# Altium integrated library Xilinx Virtex-E FPGA.IntLib: 600 symbols (part 2 of 4)
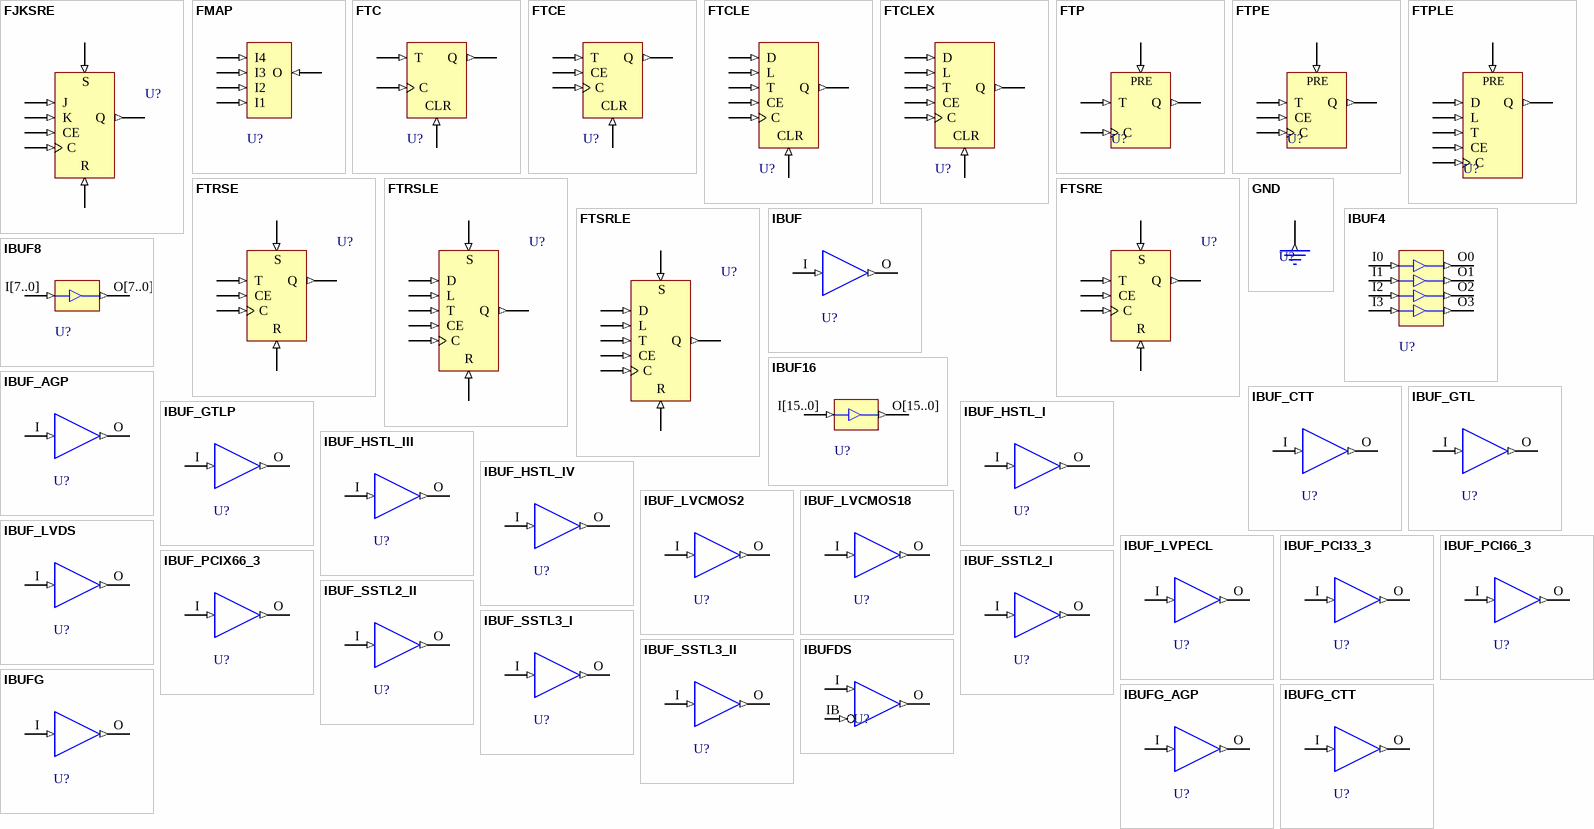
[diagram p16: symbols FJKSRE to IBUFG_CTT]

## IBUF_GTL
designator U?
Single Input Buffer using the GTL standard; FPGAVendor: Xilinx; Published: 15-Sep-2003; Publisher: Altium Limited; HelpURL: http://toolbox.xilinx.com/docsan/xilinx7/books/docs/lib/lib.pdf
pins: I (in), O (out)

## IBUF_GTLP
designator U?
Dedicated Input Buffer using the GTL Plus standard; FPGAVendor: Xilinx; Published: 15-Sep-2003; Publisher: Altium Limited; HelpURL: http://toolbox.xilinx.com/docsan/xilinx7/books/docs/lib/lib.pdf
pins: I (in), O (out)

## IBUF_HSTL_I
designator U?
Single Input Buffer using the HSTL_I standard; FPGAVendor: Xilinx; Published: 15-Sep-2003; Publisher: Altium Limited; HelpURL: http://toolbox.xilinx.com/docsan/xilinx7/books/docs/lib/lib.pdf
pins: I (in), O (out)

## IBUF_HSTL_III
designator U?
Single Input Buffer using the HSTL_III standard; FPGAVendor: Xilinx; Published: 15-Sep-2003; Publisher: Altium Limited; HelpURL: http://toolbox.xilinx.com/docsan/xilinx7/books/docs/lib/lib.pdf
pins: I (in), O (out)

## IBUF_HSTL_IV
designator U?
Single Input Buffer using the HSTL_IV standard; FPGAVendor: Xilinx; Published: 15-Sep-2003; Publisher: Altium Limited; HelpURL: http://toolbox.xilinx.com/docsan/xilinx7/books/docs/lib/lib.pdf
pins: I (in), O (out)

## IBUF_LVCMOS2
designator U?
Single Input Buffer using the LVCMOS2 standard; FPGAVendor: Xilinx; Note: Not supported for Virtex; Published: 15-Sep-2003; Publisher: Altium Limited; HelpURL: http://toolbox.xilinx.com/docsan/xilinx7/books/docs/lib/lib.pdf
pins: I (in), O (out)

## IBUF_LVCMOS18
designator U?
Single Input Buffer using the LVCMOS18 standard; FPGAVendor: Xilinx; Note: Not supported for Virtex; Published: 15-Sep-2003; Publisher: Altium Limited; HelpURL: http://toolbox.xilinx.com/docsan/xilinx7/books/docs/lib/lib.pdf
pins: I (in), O (out)

## IBUF_LVDS
designator U?
Single Input Buffer using the LVDS standard; FPGAVendor: Xilinx; Note: Not supported for Virtex; Published: 15-Sep-2003; Publisher: Altium Limited; HelpURL: http://toolbox.xilinx.com/docsan/xilinx7/books/docs/lib/lib.pdf
pins: I (in), O (out)

## IBUF_LVPECL
designator U?
Single Input Buffer using the LVPECL standard; FPGAVendor: Xilinx; Note: Not supported for Virtex; Published: 15-Sep-2003; Publisher: Altium Limited; HelpURL: http://toolbox.xilinx.com/docsan/xilinx7/books/docs/lib/lib.pdf
pins: I (in), O (out)

## IBUF_PCI33_3
designator U?
Single Input Buffer using the PCI33_3 standard; FPGAVendor: Xilinx; Published: 15-Sep-2003; Publisher: Altium Limited; HelpURL: http://toolbox.xilinx.com/docsan/xilinx7/books/docs/lib/lib.pdf
pins: I (in), O (out)

## IBUF_PCI66_3
designator U?
Single Input Buffer using the PCI66_3 standard; FPGAVendor: Xilinx; Published: 15-Sep-2003; Publisher: Altium Limited; HelpURL: http://toolbox.xilinx.com/docsan/xilinx7/books/docs/lib/lib.pdf
pins: I (in), O (out)

## IBUF_PCIX66_3
designator U?
Single Input Buffer using the PCIX66_3 standard; FPGAVendor: Xilinx; Published: 15-Sep-2003; Publisher: Altium Limited; HelpURL: http://toolbox.xilinx.com/docsan/xilinx7/books/docs/lib/lib.pdf
pins: I (in), O (out)

## IBUF_SSTL2_I
designator U?
Single Input Buffer using the SSTL2_I standard; FPGAVendor: Xilinx; Published: 15-Sep-2003; Publisher: Altium Limited; HelpURL: http://toolbox.xilinx.com/docsan/xilinx7/books/docs/lib/lib.pdf
pins: I (in), O (out)

## IBUF_SSTL2_II
designator U?
Single Input Buffer using the SSTL2_II standard; FPGAVendor: Xilinx; Published: 15-Sep-2003; Publisher: Altium Limited; HelpURL: http://toolbox.xilinx.com/docsan/xilinx7/books/docs/lib/lib.pdf
pins: I (in), O (out)

## IBUF_SSTL3_I
designator U?
Single Input Buffer using the SSTL3_I standard; FPGAVendor: Xilinx; Published: 15-Sep-2003; Publisher: Altium Limited; HelpURL: http://toolbox.xilinx.com/docsan/xilinx7/books/docs/lib/lib.pdf
pins: I (in), O (out)

## IBUF_SSTL3_II
designator U?
Single Input Buffer using the SSTL3_II standard; FPGAVendor: Xilinx; Published: 15-Sep-2003; Publisher: Altium Limited; HelpURL: http://toolbox.xilinx.com/docsan/xilinx7/books/docs/lib/lib.pdf
pins: I (in), O (out)

## IBUFDS
designator U?
Differential Signaling Input Buffer with Selectable I/O Interface; FPGAVendor: Xilinx; Published: 15-Sep-2003; Publisher: Altium Limited; HelpURL: http://toolbox.xilinx.com/docsan/xilinx7/books/docs/lib/lib.pdf
pins: I (in), IB (in), O (out)

## IBUFG
designator U?
Dedicated Input Buffer using the LVTTL standard; FPGAVendor: Xilinx; Published: 15-Sep-2003; Publisher: Altium Limited; HelpURL: http://toolbox.xilinx.com/docsan/xilinx7/books/docs/lib/lib.pdf
pins: I (in), O (out)

## IBUFG_AGP
designator U?
Dedicated Input Buffer using the AGP standard; FPGAVendor: Xilinx; Published: 15-Sep-2003; Publisher: Altium Limited; HelpURL: http://toolbox.xilinx.com/docsan/xilinx7/books/docs/lib/lib.pdf
pins: I (in), O (out)

## IBUFG_CTT
designator U?
Dedicated Input Buffer using the CTT standard; FPGAVendor: Xilinx; Published: 15-Sep-2003; Publisher: Altium Limited; HelpURL: http://toolbox.xilinx.com/docsan/xilinx7/books/docs/lib/lib.pdf
pins: I (in), O (out)

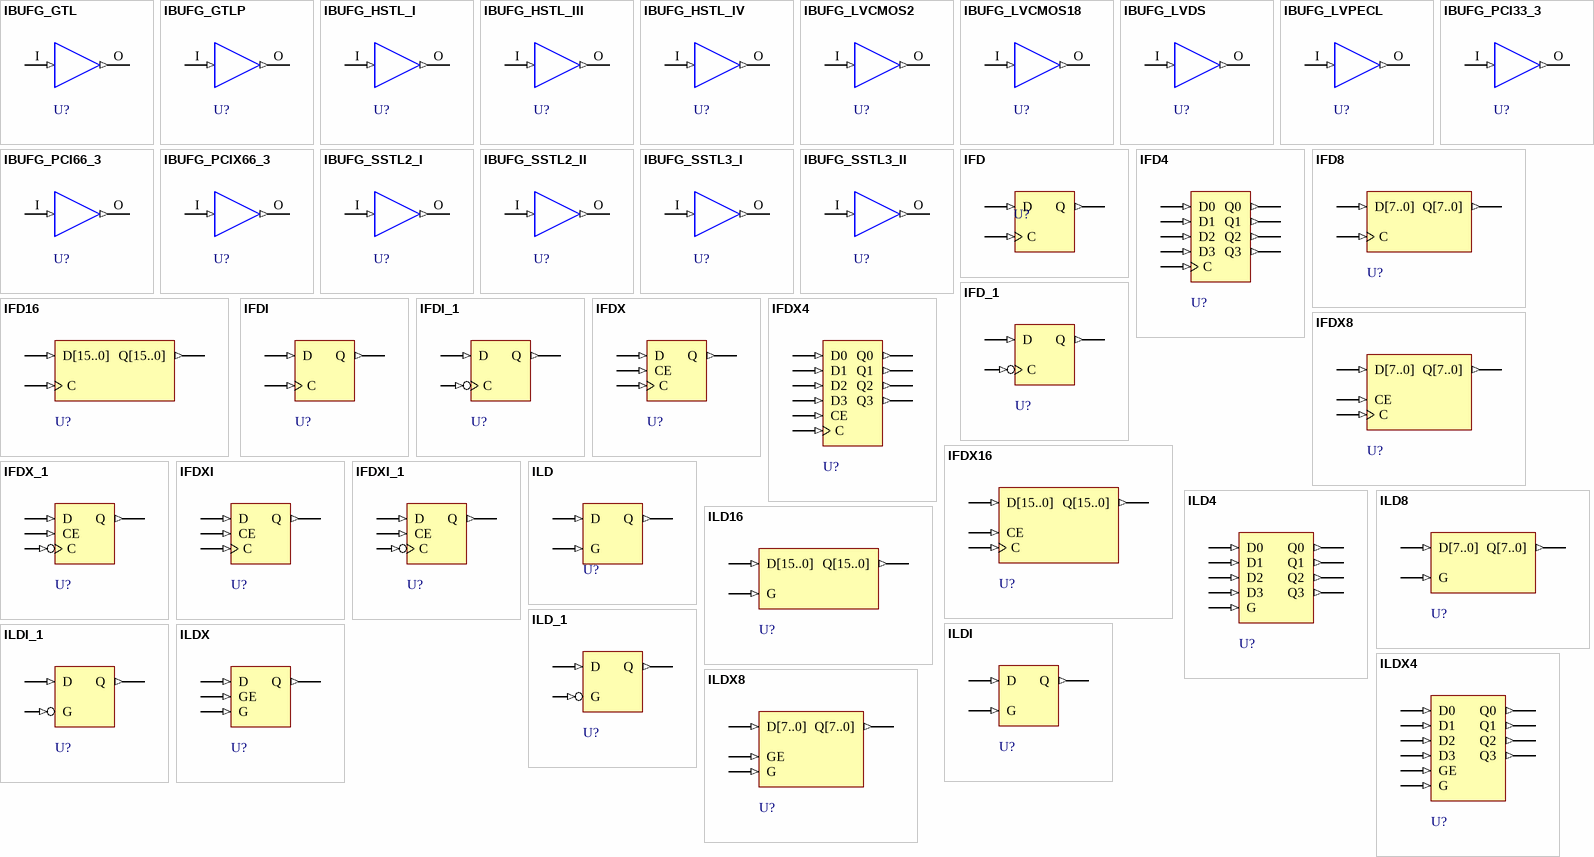
[diagram p5: symbols IBUFG_GTL to ILDX8]

## IBUFG_GTL
designator U?
Dedicated Input Buffer using the GTL standard; FPGAVendor: Xilinx; Published: 15-Sep-2003; Publisher: Altium Limited; HelpURL: http://toolbox.xilinx.com/docsan/xilinx7/books/docs/lib/lib.pdf
pins: I (in), O (out)

## IBUFG_GTLP
designator U?
Dedicated Input Buffer using the GTL Plus standard; FPGAVendor: Xilinx; Published: 15-Sep-2003; Publisher: Altium Limited; HelpURL: http://toolbox.xilinx.com/docsan/xilinx7/books/docs/lib/lib.pdf
pins: I (in), O (out)

## IBUFG_HSTL_I
designator U?
Dedicated Input Buffer using the HSTL_I standard; FPGAVendor: Xilinx; Published: 15-Sep-2003; Publisher: Altium Limited; HelpURL: http://toolbox.xilinx.com/docsan/xilinx7/books/docs/lib/lib.pdf
pins: I (in), O (out)

## IBUFG_HSTL_III
designator U?
Dedicated Input Buffer using the HSTL_III standard; FPGAVendor: Xilinx; Published: 15-Sep-2003; Publisher: Altium Limited; HelpURL: http://toolbox.xilinx.com/docsan/xilinx7/books/docs/lib/lib.pdf
pins: I (in), O (out)

## IBUFG_HSTL_IV
designator U?
Dedicated Input Buffer using the HSTL_IV standard; FPGAVendor: Xilinx; Published: 15-Sep-2003; Publisher: Altium Limited; HelpURL: http://toolbox.xilinx.com/docsan/xilinx7/books/docs/lib/lib.pdf
pins: I (in), O (out)

## IBUFG_LVCMOS2
designator U?
Dedicated Input Buffer using the LVCMOS2 standard; FPGAVendor: Xilinx; Note: Not supported for Virtex; Published: 15-Sep-2003; Publisher: Altium Limited; HelpURL: http://toolbox.xilinx.com/docsan/xilinx7/books/docs/lib/lib.pdf
pins: I (in), O (out)

## IBUFG_LVCMOS18
designator U?
Dedicated Input Buffer using the LVCMOS18 standard; FPGAVendor: Xilinx; Note: Not supported for Virtex; Published: 15-Sep-2003; Publisher: Altium Limited; HelpURL: http://toolbox.xilinx.com/docsan/xilinx7/books/docs/lib/lib.pdf
pins: I (in), O (out)

## IBUFG_LVDS
designator U?
Dedicated Input Buffer using the LVDS standard; FPGAVendor: Xilinx; Note: Not supported for Virtex; Published: 15-Sep-2003; Publisher: Altium Limited; HelpURL: http://toolbox.xilinx.com/docsan/xilinx7/books/docs/lib/lib.pdf
pins: I (in), O (out)

## IBUFG_LVPECL
designator U?
Dedicated Input Buffer using the LVPECL standard; FPGAVendor: Xilinx; Note: Not supported for Virtex; Published: 15-Sep-2003; Publisher: Altium Limited; HelpURL: http://toolbox.xilinx.com/docsan/xilinx7/books/docs/lib/lib.pdf
pins: I (in), O (out)

## IBUFG_PCI33_3
designator U?
Dedicated Input Buffer using the PCI33_3 standard; FPGAVendor: Xilinx; Published: 15-Sep-2003; Publisher: Altium Limited; HelpURL: http://toolbox.xilinx.com/docsan/xilinx7/books/docs/lib/lib.pdf
pins: I (in), O (out)

## IBUFG_PCI66_3
designator U?
Dedicated Input Buffer using the PCI66_3 standard; FPGAVendor: Xilinx; Published: 15-Sep-2003; Publisher: Altium Limited; HelpURL: http://toolbox.xilinx.com/docsan/xilinx7/books/docs/lib/lib.pdf
pins: I (in), O (out)

## IBUFG_PCIX66_3
designator U?
Dedicated Input Buffer using the PCIX66_3 standard; FPGAVendor: Xilinx; Published: 15-Sep-2003; Publisher: Altium Limited; HelpURL: http://toolbox.xilinx.com/docsan/xilinx7/books/docs/lib/lib.pdf
pins: I (in), O (out)

## IBUFG_SSTL2_I
designator U?
Dedicated Input Buffer using the SSTL2_I standard; FPGAVendor: Xilinx; Published: 15-Sep-2003; Publisher: Altium Limited; HelpURL: http://toolbox.xilinx.com/docsan/xilinx7/books/docs/lib/lib.pdf
pins: I (in), O (out)

## IBUFG_SSTL2_II
designator U?
Dedicated Input Buffer using the SSTL2_II standard; FPGAVendor: Xilinx; Published: 15-Sep-2003; Publisher: Altium Limited; HelpURL: http://toolbox.xilinx.com/docsan/xilinx7/books/docs/lib/lib.pdf
pins: I (in), O (out)

## IBUFG_SSTL3_I
designator U?
Dedicated Input Buffer using the SSTL3_I standard; FPGAVendor: Xilinx; Published: 15-Sep-2003; Publisher: Altium Limited; HelpURL: http://toolbox.xilinx.com/docsan/xilinx7/books/docs/lib/lib.pdf
pins: I (in), O (out)

## IBUFG_SSTL3_II
designator U?
Dedicated Input Buffer using the SSTL3_II standard; FPGAVendor: Xilinx; Published: 15-Sep-2003; Publisher: Altium Limited; HelpURL: http://toolbox.xilinx.com/docsan/xilinx7/books/docs/lib/lib.pdf
pins: I (in), O (out)

## IFD
designator U?
Single-Input D Flip-Flop; FPGAVendor: Xilinx; Published: 15-Sep-2003; Publisher: Altium Limited; HelpURL: http://toolbox.xilinx.com/docsan/xilinx7/books/docs/lib/lib.pdf
pins: C (in), D (in), Q (out)

## IFD4
designator U?
Multiple-Input D Flip-Flop; FPGAVendor: Xilinx; Published: 15-Sep-2003; Publisher: Altium Limited; HelpURL: http://toolbox.xilinx.com/docsan/xilinx7/books/docs/lib/lib.pdf
pins: C (in), D0 (in), D1 (in), D2 (in), D3 (in), Q0 (out), Q1 (out), Q2 (out), Q3 (out)

## IFD8
designator U?
Multiple-Input D Flip-Flop; FPGAVendor: Xilinx; Published: 15-Sep-2003; Publisher: Altium Limited; HelpURL: http://toolbox.xilinx.com/docsan/xilinx7/books/docs/lib/lib.pdf
pins: C (in), D[7..0] (in), Q[7..0] (out)

## IFD16
designator U?
Multiple-Input D Flip-Flop; FPGAVendor: Xilinx; Published: 15-Sep-2003; Publisher: Altium Limited; HelpURL: http://toolbox.xilinx.com/docsan/xilinx7/books/docs/lib/lib.pdf
pins: C (in), D[15..0] (in), Q[15..0] (out)

## IFD_1
designator U?
Input D Flip-Flop with Inverted Clock; FPGAVendor: Xilinx; Published: 15-Sep-2003; Publisher: Altium Limited; HelpURL: http://toolbox.xilinx.com/docsan/xilinx7/books/docs/lib/lib.pdf
pins: C (in), D (in), Q (out)

## IFDI
designator U?
Input D Flip-Flop (Asynchronous Preset); FPGAVendor: Xilinx; Published: 15-Sep-2003; Publisher: Altium Limited; HelpURL: http://toolbox.xilinx.com/docsan/xilinx7/books/docs/lib/lib.pdf
pins: C (in), D (in), Q (out)

## IFDI_1
designator U?
Input D Flip-Flop with Inverted Clock (Asynchronous Preset); FPGAVendor: Xilinx; Published: 15-Sep-2003; Publisher: Altium Limited; HelpURL: http://toolbox.xilinx.com/docsan/xilinx7/books/docs/lib/lib.pdf
pins: C (in), D (in), Q (out)

## IFDX
designator U?
Single-Input D Flip-Flop with Clock Enable; FPGAVendor: Xilinx; Published: 15-Sep-2003; Publisher: Altium Limited; HelpURL: http://toolbox.xilinx.com/docsan/xilinx7/books/docs/lib/lib.pdf
pins: C (in), CE (in), D (in), Q (out)

## IFDX4
designator U?
Multiple-Input D Flip-Flop with Clock Enable; FPGAVendor: Xilinx; Published: 15-Sep-2003; Publisher: Altium Limited; HelpURL: http://toolbox.xilinx.com/docsan/xilinx7/books/docs/lib/lib.pdf
pins: C (in), CE (in), D0 (in), D1 (in), D2 (in), D3 (in), Q0 (out), Q1 (out), Q2 (out), Q3 (out)

## IFDX8
designator U?
Multiple-Input D Flip-Flop with Clock Enable; FPGAVendor: Xilinx; Published: 15-Sep-2003; Publisher: Altium Limited; HelpURL: http://toolbox.xilinx.com/docsan/xilinx7/books/docs/lib/lib.pdf
pins: C (in), CE (in), D[7..0] (in), Q[7..0] (out)

## IFDX16
designator U?
Multiple-Input D Flip-Flop with Clock Enable; FPGAVendor: Xilinx; Published: 15-Sep-2003; Publisher: Altium Limited; HelpURL: http://toolbox.xilinx.com/docsan/xilinx7/books/docs/lib/lib.pdf
pins: C (in), CE (in), D[15..0] (in), Q[15..0] (out)

## IFDX_1
designator U?
Input D Flip-Flop with Inverted Clock and Clock Enable; FPGAVendor: Xilinx; Published: 15-Sep-2003; Publisher: Altium Limited; HelpURL: http://toolbox.xilinx.com/docsan/xilinx7/books/docs/lib/lib.pdf
pins: C (in), CE (in), D (in), Q (out)

## IFDXI
designator U?
Input D Flip-Flop with Clock Enable (Asynchronous Preset); FPGAVendor: Xilinx; Published: 15-Sep-2003; Publisher: Altium Limited; HelpURL: http://toolbox.xilinx.com/docsan/xilinx7/books/docs/lib/lib.pdf
pins: C (in), CE (in), D (in), Q (out)

## IFDXI_1
designator U?
Input D Flip-Flop with Inverted Clock and Clock Enable (Asynchronous Preset); FPGAVendor: Xilinx; Published: 15-Sep-2003; Publisher: Altium Limited; HelpURL: http://toolbox.xilinx.com/docsan/xilinx7/books/docs/lib/lib.pdf
pins: C (in), CE (in), D (in), Q (out)

## ILD
designator U?
Transparent Input Data Latch; FPGAVendor: Xilinx; Published: 15-Sep-2003; Publisher: Altium Limited; HelpURL: http://toolbox.xilinx.com/docsan/xilinx7/books/docs/lib/lib.pdf
pins: D (in), G (in), Q (out)

## ILD4
designator U?
Transparent Input Data Latch; FPGAVendor: Xilinx; Published: 15-Sep-2003; Publisher: Altium Limited; HelpURL: http://toolbox.xilinx.com/docsan/xilinx7/books/docs/lib/lib.pdf
pins: D0 (in), D1 (in), D2 (in), D3 (in), G (in), Q0 (out), Q1 (out), Q2 (out), Q3 (out)

## ILD8
designator U?
Transparent Input Data Latch; FPGAVendor: Xilinx; Published: 15-Sep-2003; Publisher: Altium Limited; HelpURL: http://toolbox.xilinx.com/docsan/xilinx7/books/docs/lib/lib.pdf
pins: D[7..0] (in), G (in), Q[7..0] (out)

## ILD16
designator U?
Transparent Input Data Latch; FPGAVendor: Xilinx; Published: 15-Sep-2003; Publisher: Altium Limited; HelpURL: http://toolbox.xilinx.com/docsan/xilinx7/books/docs/lib/lib.pdf
pins: D[15..0] (in), G (in), Q[15..0] (out)

## ILD_1
designator U?
Transparent Input Data Latch with Inverted Gate; FPGAVendor: Xilinx; Published: 15-Sep-2003; Publisher: Altium Limited; HelpURL: http://toolbox.xilinx.com/docsan/xilinx7/books/docs/lib/lib.pdf
pins: D (in), G (in), Q (out)

## ILDI
designator U?
Transparent Input Data Latch (Asynchronous Preset); FPGAVendor: Xilinx; Published: 15-Sep-2003; Publisher: Altium Limited; HelpURL: http://toolbox.xilinx.com/docsan/xilinx7/books/docs/lib/lib.pdf
pins: D (in), G (in), Q (out)

## ILDI_1
designator U?
Transparent Input Data Latch with Inverted Gate (Asynchronous Preset); FPGAVendor: Xilinx; Published: 15-Sep-2003; Publisher: Altium Limited; HelpURL: http://toolbox.xilinx.com/docsan/xilinx7/books/docs/lib/lib.pdf
pins: D (in), G (in), Q (out)

## ILDX
designator U?
Transparent Input Data Latch; FPGAVendor: Xilinx; Published: 15-Sep-2003; Publisher: Altium Limited; HelpURL: http://toolbox.xilinx.com/docsan/xilinx7/books/docs/lib/lib.pdf
pins: D (in), G (in), GE (in), Q (out)

## ILDX4
designator U?
Transparent Input Data Latch; FPGAVendor: Xilinx; Published: 15-Sep-2003; Publisher: Altium Limited; HelpURL: http://toolbox.xilinx.com/docsan/xilinx7/books/docs/lib/lib.pdf
pins: D0 (in), D1 (in), D2 (in), D3 (in), G (in), GE (in), Q0 (out), Q1 (out), Q2 (out), Q3 (out)

## ILDX8
designator U?
Transparent Input Data Latch; FPGAVendor: Xilinx; Published: 15-Sep-2003; Publisher: Altium Limited; HelpURL: http://toolbox.xilinx.com/docsan/xilinx7/books/docs/lib/lib.pdf
pins: D[7..0] (in), G (in), GE (in), Q[7..0] (out)

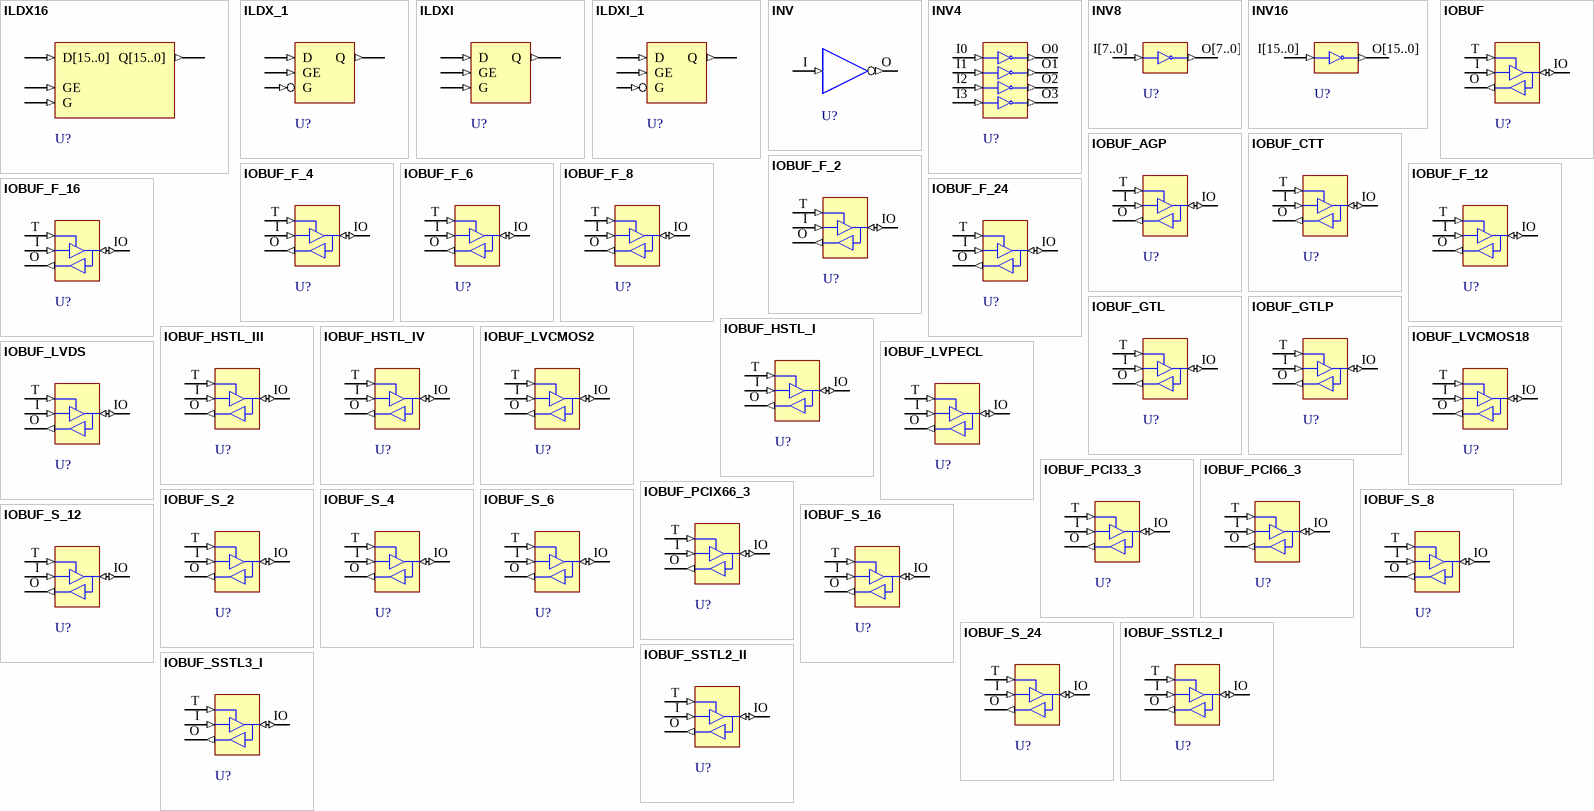
[diagram p6: symbols ILDX16 to IOBUF_SSTL3_I]

## ILDX16
designator U?
Transparent Input Data Latch; FPGAVendor: Xilinx; Published: 15-Sep-2003; Publisher: Altium Limited; HelpURL: http://toolbox.xilinx.com/docsan/xilinx7/books/docs/lib/lib.pdf
pins: D[15..0] (in), G (in), GE (in), Q[15..0] (out)

## ILDX_1
designator U?
Transparent Input Data Latch with Inverted Gate; FPGAVendor: Xilinx; Published: 15-Sep-2003; Publisher: Altium Limited; HelpURL: http://toolbox.xilinx.com/docsan/xilinx7/books/docs/lib/lib.pdf
pins: D (in), G (in), GE (in), Q (out)

## ILDXI
designator U?
Transparent Input Data Latch (Asynchronous Preset); FPGAVendor: Xilinx; Published: 15-Sep-2003; Publisher: Altium Limited; HelpURL: http://toolbox.xilinx.com/docsan/xilinx7/books/docs/lib/lib.pdf
pins: D (in), G (in), GE (in), Q (out)

## ILDXI_1
designator U?
Transparent Input Data Latch with Inverted Gate (Asynchronous Preset); FPGAVendor: Xilinx; Published: 15-Sep-2003; Publisher: Altium Limited; HelpURL: http://toolbox.xilinx.com/docsan/xilinx7/books/docs/lib/lib.pdf
pins: D (in), G (in), GE (in), Q (out)

## INV
designator U?
Inverter; FPGAVendor: Xilinx; Published: 15-Sep-2003; Publisher: Altium Limited; HelpURL: http://toolbox.xilinx.com/docsan/xilinx7/books/docs/lib/lib.pdf
pins: I (in), O (out)

## INV4
designator U?
4 x Inverters; FPGAVendor: Xilinx; Published: 15-Sep-2003; Publisher: Altium Limited; HelpURL: http://toolbox.xilinx.com/docsan/xilinx7/books/docs/lib/lib.pdf
pins: I0 (in), I1 (in), I2 (in), I3 (in), O0 (out), O1 (out), O2 (out), O3 (out)

## INV8
designator U?
8 x Inverters; FPGAVendor: Xilinx; Published: 15-Sep-2003; Publisher: Altium Limited; HelpURL: http://toolbox.xilinx.com/docsan/xilinx7/books/docs/lib/lib.pdf
pins: I[7..0] (in), O[7..0] (out)

## INV16
designator U?
16 x Inverters; FPGAVendor: Xilinx; Published: 15-Sep-2003; Publisher: Altium Limited; HelpURL: http://toolbox.xilinx.com/docsan/xilinx7/books/docs/lib/lib.pdf
pins: I[15..0] (in), O[15..0] (out)

## IOBUF
designator U?
Bi-Directional Buffer using the LVTTL standard; FPGAVendor: Xilinx; Published: 15-Sep-2003; Publisher: Altium Limited; HelpURL: http://toolbox.xilinx.com/docsan/xilinx7/books/docs/lib/lib.pdf
pins: I (in), IO (io), O (out), T (in)

## IOBUF_AGP
designator U?
Bi-Directional Buffer using the AGP standard; FPGAVendor: Xilinx; Published: 15-Sep-2003; Publisher: Altium Limited; HelpURL: http://toolbox.xilinx.com/docsan/xilinx7/books/docs/lib/lib.pdf
pins: I (in), IO (io), O (out), T (in)

## IOBUF_CTT
designator U?
Bi-Directional Buffer using the CTT standard; FPGAVendor: Xilinx; Published: 15-Sep-2003; Publisher: Altium Limited; HelpURL: http://toolbox.xilinx.com/docsan/xilinx7/books/docs/lib/lib.pdf
pins: I (in), IO (io), O (out), T (in)

## IOBUF_F_2
designator U?
Bi-Directional Buffer using the LVTTL standard; FPGAVendor: Xilinx; Published: 15-Sep-2003; Publisher: Altium Limited; HelpURL: http://toolbox.xilinx.com/docsan/xilinx7/books/docs/lib/lib.pdf
pins: I (in), IO (io), O (out), T (in)

## IOBUF_F_4
designator U?
Bi-Directional Buffer using the LVTTL standard; FPGAVendor: Xilinx; Published: 15-Sep-2003; Publisher: Altium Limited; HelpURL: http://toolbox.xilinx.com/docsan/xilinx7/books/docs/lib/lib.pdf
pins: I (in), IO (io), O (out), T (in)

## IOBUF_F_6
designator U?
Bi-Directional Buffer using the LVTTL standard; FPGAVendor: Xilinx; Published: 15-Sep-2003; Publisher: Altium Limited; HelpURL: http://toolbox.xilinx.com/docsan/xilinx7/books/docs/lib/lib.pdf
pins: I (in), IO (io), O (out), T (in)

## IOBUF_F_8
designator U?
Bi-Directional Buffer using the LVTTL standard; FPGAVendor: Xilinx; Published: 15-Sep-2003; Publisher: Altium Limited; HelpURL: http://toolbox.xilinx.com/docsan/xilinx7/books/docs/lib/lib.pdf
pins: I (in), IO (io), O (out), T (in)

## IOBUF_F_12
designator U?
Bi-Directional Buffer using the LVTTL standard; FPGAVendor: Xilinx; Published: 15-Sep-2003; Publisher: Altium Limited; HelpURL: http://toolbox.xilinx.com/docsan/xilinx7/books/docs/lib/lib.pdf
pins: I (in), IO (io), O (out), T (in)

## IOBUF_F_16
designator U?
Bi-Directional Buffer using the LVTTL standard; FPGAVendor: Xilinx; Published: 15-Sep-2003; Publisher: Altium Limited; HelpURL: http://toolbox.xilinx.com/docsan/xilinx7/books/docs/lib/lib.pdf
pins: I (in), IO (io), O (out), T (in)

## IOBUF_F_24
designator U?
Bi-Directional Buffer using the LVTTL standard; FPGAVendor: Xilinx; Published: 15-Sep-2003; Publisher: Altium Limited; HelpURL: http://toolbox.xilinx.com/docsan/xilinx7/books/docs/lib/lib.pdf
pins: I (in), IO (io), O (out), T (in)

## IOBUF_GTL
designator U?
Bi-Directional Buffer using the GTL standard; FPGAVendor: Xilinx; Published: 15-Sep-2003; Publisher: Altium Limited; HelpURL: http://toolbox.xilinx.com/docsan/xilinx7/books/docs/lib/lib.pdf
pins: I (in), IO (io), O (out), T (in)

## IOBUF_GTLP
designator U?
Bi-Directional Buffer using the GTL Plus standard; FPGAVendor: Xilinx; Published: 15-Sep-2003; Publisher: Altium Limited; HelpURL: http://toolbox.xilinx.com/docsan/xilinx7/books/docs/lib/lib.pdf
pins: I (in), IO (io), O (out), T (in)

## IOBUF_HSTL_I
designator U?
Bi-Directional Buffer using the HSTL_I standard; FPGAVendor: Xilinx; Published: 15-Sep-2003; Publisher: Altium Limited; HelpURL: http://toolbox.xilinx.com/docsan/xilinx7/books/docs/lib/lib.pdf
pins: I (in), IO (io), O (out), T (in)

## IOBUF_HSTL_III
designator U?
Bi-Directional Buffer using the HSTL_III standard; FPGAVendor: Xilinx; Published: 15-Sep-2003; Publisher: Altium Limited; HelpURL: http://toolbox.xilinx.com/docsan/xilinx7/books/docs/lib/lib.pdf
pins: I (in), IO (io), O (out), T (in)

## IOBUF_HSTL_IV
designator U?
Bi-Directional Buffer using the HSTL_IV standard; FPGAVendor: Xilinx; Published: 15-Sep-2003; Publisher: Altium Limited; HelpURL: http://toolbox.xilinx.com/docsan/xilinx7/books/docs/lib/lib.pdf
pins: I (in), IO (io), O (out), T (in)

## IOBUF_LVCMOS2
designator U?
Bi-Directional Buffer using the LVCMOS2 standard; FPGAVendor: Xilinx; Note: Not supported for Virtex; Published: 15-Sep-2003; Publisher: Altium Limited; HelpURL: http://toolbox.xilinx.com/docsan/xilinx7/books/docs/lib/lib.pdf
pins: I (in), IO (io), O (out), T (in)

## IOBUF_LVCMOS18
designator U?
Bi-Directional Buffer using the LVCMOS18 standard; FPGAVendor: Xilinx; Note: Not supported for Virtex; Published: 15-Sep-2003; Publisher: Altium Limited; HelpURL: http://toolbox.xilinx.com/docsan/xilinx7/books/docs/lib/lib.pdf
pins: I (in), IO (io), O (out), T (in)

## IOBUF_LVDS
designator U?
Bi-Directional Buffer using the LVDS standard; FPGAVendor: Xilinx; Note: Not supported for Virtex; Published: 15-Sep-2003; Publisher: Altium Limited; HelpURL: http://toolbox.xilinx.com/docsan/xilinx7/books/docs/lib/lib.pdf
pins: I (in), IO (io), O (out), T (in)

## IOBUF_LVPECL
designator U?
Bi-Directional Buffer using the LVPECL standard; FPGAVendor: Xilinx; Note: Not supported for Virtex; Published: 15-Sep-2003; Publisher: Altium Limited; HelpURL: http://toolbox.xilinx.com/docsan/xilinx7/books/docs/lib/lib.pdf
pins: I (in), IO (io), O (out), T (in)

## IOBUF_PCI33_3
designator U?
Bi-Directional Buffer using the PCI33_3 standard; FPGAVendor: Xilinx; Published: 15-Sep-2003; Publisher: Altium Limited; HelpURL: http://toolbox.xilinx.com/docsan/xilinx7/books/docs/lib/lib.pdf
pins: I (in), IO (io), O (out), T (in)

## IOBUF_PCI66_3
designator U?
Bi-Directional Buffer using the PCI66_3 standard; FPGAVendor: Xilinx; Published: 15-Sep-2003; Publisher: Altium Limited; HelpURL: http://toolbox.xilinx.com/docsan/xilinx7/books/docs/lib/lib.pdf
pins: I (in), IO (io), O (out), T (in)

## IOBUF_PCIX66_3
designator U?
Bi-Directional Buffer using the PCIX66_3 standard; FPGAVendor: Xilinx; Published: 15-Sep-2003; Publisher: Altium Limited; HelpURL: http://toolbox.xilinx.com/docsan/xilinx7/books/docs/lib/lib.pdf
pins: I (in), IO (io), O (out), T (in)

## IOBUF_S_2
designator U?
Bi-Directional Buffer using the LVTTL standard; FPGAVendor: Xilinx; Published: 15-Sep-2003; Publisher: Altium Limited; HelpURL: http://toolbox.xilinx.com/docsan/xilinx7/books/docs/lib/lib.pdf
pins: I (in), IO (io), O (out), T (in)

## IOBUF_S_4
designator U?
Bi-Directional Buffer using the LVTTL standard; FPGAVendor: Xilinx; Published: 15-Sep-2003; Publisher: Altium Limited; HelpURL: http://toolbox.xilinx.com/docsan/xilinx7/books/docs/lib/lib.pdf
pins: I (in), IO (io), O (out), T (in)

## IOBUF_S_6
designator U?
Bi-Directional Buffer using the LVTTL standard; FPGAVendor: Xilinx; Published: 15-Sep-2003; Publisher: Altium Limited; HelpURL: http://toolbox.xilinx.com/docsan/xilinx7/books/docs/lib/lib.pdf
pins: I (in), IO (io), O (out), T (in)

## IOBUF_S_8
designator U?
Bi-Directional Buffer using the LVTTL standard; FPGAVendor: Xilinx; Published: 15-Sep-2003; Publisher: Altium Limited; HelpURL: http://toolbox.xilinx.com/docsan/xilinx7/books/docs/lib/lib.pdf
pins: I (in), IO (io), O (out), T (in)

## IOBUF_S_12
designator U?
Bi-Directional Buffer using the LVTTL standard; FPGAVendor: Xilinx; Published: 15-Sep-2003; Publisher: Altium Limited; HelpURL: http://toolbox.xilinx.com/docsan/xilinx7/books/docs/lib/lib.pdf
pins: I (in), IO (io), O (out), T (in)

## IOBUF_S_16
designator U?
Bi-Directional Buffer using the LVTTL standard; FPGAVendor: Xilinx; Published: 15-Sep-2003; Publisher: Altium Limited; HelpURL: http://toolbox.xilinx.com/docsan/xilinx7/books/docs/lib/lib.pdf
pins: I (in), IO (io), O (out), T (in)

## IOBUF_S_24
designator U?
Bi-Directional Buffer using the LVTTL standard; FPGAVendor: Xilinx; Published: 15-Sep-2003; Publisher: Altium Limited; HelpURL: http://toolbox.xilinx.com/docsan/xilinx7/books/docs/lib/lib.pdf
pins: I (in), IO (io), O (out), T (in)

## IOBUF_SSTL2_I
designator U?
Bi-Directional Buffer using the SSTL2_I standard; FPGAVendor: Xilinx; Published: 15-Sep-2003; Publisher: Altium Limited; HelpURL: http://toolbox.xilinx.com/docsan/xilinx7/books/docs/lib/lib.pdf
pins: I (in), IO (io), O (out), T (in)

## IOBUF_SSTL2_II
designator U?
Bi-Directional Buffer using the SSTL2_II standard; FPGAVendor: Xilinx; Published: 15-Sep-2003; Publisher: Altium Limited; HelpURL: http://toolbox.xilinx.com/docsan/xilinx7/books/docs/lib/lib.pdf
pins: I (in), IO (io), O (out), T (in)

## IOBUF_SSTL3_I
designator U?
Bi-Directional Buffer using the SSTL3_I standard; FPGAVendor: Xilinx; Published: 15-Sep-2003; Publisher: Altium Limited; HelpURL: http://toolbox.xilinx.com/docsan/xilinx7/books/docs/lib/lib.pdf
pins: I (in), IO (io), O (out), T (in)

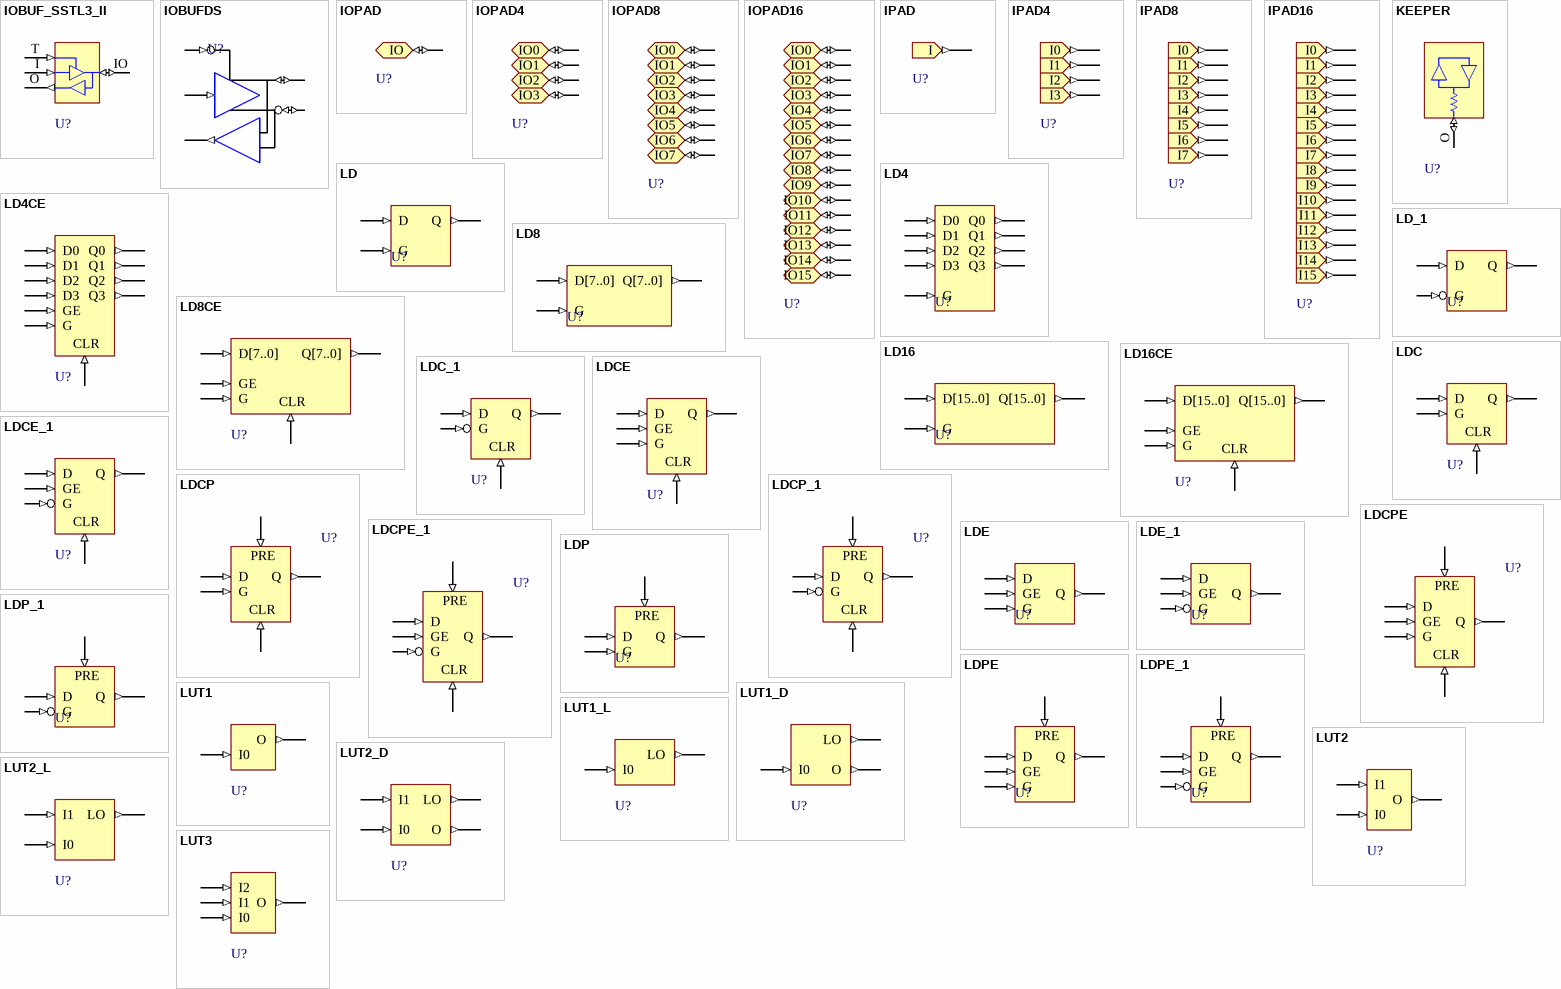
[diagram p7: symbols IOBUF_SSTL3_II to LUT3]

## IOBUF_SSTL3_II
designator U?
Bi-Directional Buffer using the SSTL3_II standard; FPGAVendor: Xilinx; Published: 15-Sep-2003; Publisher: Altium Limited; HelpURL: http://toolbox.xilinx.com/docsan/xilinx7/books/docs/lib/lib.pdf
pins: I (in), IO (io), O (out), T (in)

## IOBUFDS
designator U?
3-State Differential Signaling I/O Buffer with Active Low Output Enable; FPGAVendor: Xilinx; Published: 15-Sep-2003; Publisher: Altium Limited; HelpURL: http://toolbox.xilinx.com/docsan/xilinx7/books/docs/lib/lib.pdf
pins: I (in), IO (io), IOB (io), O (out), T (in)

## IOPAD
designator U?
Single-Input/Output Pad; FPGAVendor: Xilinx; Published: 15-Sep-2003; Publisher: Altium Limited; HelpURL: http://toolbox.xilinx.com/docsan/xilinx7/books/docs/lib/lib.pdf
pins: IO (io)

## IOPAD4
designator U?
Multiple-Input/Output Pads; FPGAVendor: Xilinx; Published: 15-Sep-2003; Publisher: Altium Limited; HelpURL: http://toolbox.xilinx.com/docsan/xilinx7/books/docs/lib/lib.pdf
pins: IO0 (io), IO1 (io), IO2 (io), IO3 (io)

## IOPAD8
designator U?
Multiple-Input/Output Pads; FPGAVendor: Xilinx; Published: 15-Sep-2003; Publisher: Altium Limited; HelpURL: http://toolbox.xilinx.com/docsan/xilinx7/books/docs/lib/lib.pdf
pins: IO0 (io), IO1 (io), IO2 (io), IO3 (io), IO4 (io), IO5 (io), IO6 (io), IO7 (io)

## IOPAD16
designator U?
Multiple-Input/Output Pads; FPGAVendor: Xilinx; Published: 15-Sep-2003; Publisher: Altium Limited; HelpURL: http://toolbox.xilinx.com/docsan/xilinx7/books/docs/lib/lib.pdf
pins: IO0 (io), IO1 (io), IO2 (io), IO3 (io), IO4 (io), IO5 (io), IO6 (io), IO7 (io), IO8 (io), IO9 (io), IO10 (io), IO11 (io), IO12 (io), IO13 (io), IO14 (io), IO15 (io)

## IPAD
designator U?
Single-Input Pad; FPGAVendor: Xilinx; Published: 15-Sep-2003; Publisher: Altium Limited; HelpURL: http://toolbox.xilinx.com/docsan/xilinx7/books/docs/lib/lib.pdf
pins: I (out)

## IPAD4
designator U?
Multiple-Input Pads; FPGAVendor: Xilinx; Published: 15-Sep-2003; Publisher: Altium Limited; HelpURL: http://toolbox.xilinx.com/docsan/xilinx7/books/docs/lib/lib.pdf
pins: I0 (out), I1 (out), I2 (out), I3 (out)

## IPAD8
designator U?
Multiple-Input Pads; FPGAVendor: Xilinx; Published: 15-Sep-2003; Publisher: Altium Limited; HelpURL: http://toolbox.xilinx.com/docsan/xilinx7/books/docs/lib/lib.pdf
pins: I0 (out), I1 (out), I2 (out), I3 (out), I4 (out), I5 (out), I6 (out), I7 (out)

## IPAD16
designator U?
Multiple-Input Pads; FPGAVendor: Xilinx; Published: 15-Sep-2003; Publisher: Altium Limited; HelpURL: http://toolbox.xilinx.com/docsan/xilinx7/books/docs/lib/lib.pdf
pins: I0 (out), I1 (out), I2 (out), I3 (out), I4 (out), I5 (out), I6 (out), I7 (out), I8 (out), I9 (out), I10 (out), I11 (out), I12 (out), I13 (out), I14 (out), I15 (out)

## KEEPER
designator U?
KEEPER Symbol; FPGAVendor: Xilinx; Published: 15-Sep-2003; Publisher: Altium Limited; HelpURL: http://toolbox.xilinx.com/docsan/xilinx7/books/docs/lib/lib.pdf
pins: O (io)

## LD
designator U?
Transparent Data Latch; FPGAVendor: Xilinx; Published: 15-Sep-2003; Publisher: Altium Limited; HelpURL: http://toolbox.xilinx.com/docsan/xilinx7/books/docs/lib/lib.pdf
pins: D (in), G (in), Q (out)

## LD4
designator U?
Multiple Transparent Data Latches; FPGAVendor: Xilinx; Published: 15-Sep-2003; Publisher: Altium Limited; HelpURL: http://toolbox.xilinx.com/docsan/xilinx7/books/docs/lib/lib.pdf
pins: D0 (in), D1 (in), D2 (in), D3 (in), G (in), Q0 (out), Q1 (out), Q2 (out), Q3 (out)

## LD4CE
designator U?
Transparent Data Latch with Asynchronous Clear and Gate Enable; FPGAVendor: Xilinx; Published: 15-Sep-2003; Publisher: Altium Limited; HelpURL: http://toolbox.xilinx.com/docsan/xilinx7/books/docs/lib/lib.pdf
pins: CLR (in), D0 (in), D1 (in), D2 (in), D3 (in), G (in), GE (in), Q0 (out), Q1 (out), Q2 (out), Q3 (out)

## LD8
designator U?
Multiple Transparent Data Latches; FPGAVendor: Xilinx; Published: 15-Sep-2003; Publisher: Altium Limited; HelpURL: http://toolbox.xilinx.com/docsan/xilinx7/books/docs/lib/lib.pdf
pins: D[7..0] (in), G (in), Q[7..0] (out)

## LD8CE
designator U?
Transparent Data Latch with Asynchronous Clear and Gate Enable; FPGAVendor: Xilinx; Published: 15-Sep-2003; Publisher: Altium Limited; HelpURL: http://toolbox.xilinx.com/docsan/xilinx7/books/docs/lib/lib.pdf
pins: CLR (in), D[7..0] (in), G (in), GE (in), Q[7..0] (out)

## LD16
designator U?
Multiple Transparent Data Latches; FPGAVendor: Xilinx; Published: 15-Sep-2003; Publisher: Altium Limited; HelpURL: http://toolbox.xilinx.com/docsan/xilinx7/books/docs/lib/lib.pdf
pins: D[15..0] (in), G (in), Q[15..0] (out)

## LD16CE
designator U?
Transparent Data Latch with Asynchronous Clear and Gate Enable; FPGAVendor: Xilinx; Published: 15-Sep-2003; Publisher: Altium Limited; HelpURL: http://toolbox.xilinx.com/docsan/xilinx7/books/docs/lib/lib.pdf
pins: CLR (in), D[15..0] (in), G (in), GE (in), Q[15..0] (out)

## LD_1
designator U?
Transparent Data Latch with Inverted Gate; FPGAVendor: Xilinx; Published: 15-Sep-2003; Publisher: Altium Limited; HelpURL: http://toolbox.xilinx.com/docsan/xilinx7/books/docs/lib/lib.pdf
pins: D (in), G (in), Q (out)

## LDC
designator U?
Transparent Data Latch with Asynchronous Clear; FPGAVendor: Xilinx; Published: 15-Sep-2003; Publisher: Altium Limited; HelpURL: http://toolbox.xilinx.com/docsan/xilinx7/books/docs/lib/lib.pdf
pins: CLR (in), D (in), G (in), Q (out)

## LDC_1
designator U?
Transparent Data Latch with Asynchronous Clear and Inverted Gate; FPGAVendor: Xilinx; Published: 15-Sep-2003; Publisher: Altium Limited; HelpURL: http://toolbox.xilinx.com/docsan/xilinx7/books/docs/lib/lib.pdf
pins: CLR (in), D (in), G (in), Q (out)

## LDCE
designator U?
Transparent Data Latch wth Asynchronous Clear and Gate Enable; FPGAVendor: Xilinx; Published: 15-Sep-2003; Publisher: Altium Limited; HelpURL: http://toolbox.xilinx.com/docsan/xilinx7/books/docs/lib/lib.pdf
pins: CLR (in), D (in), G (in), GE (in), Q (out)

## LDCE_1
designator U?
Transparent Data Latch with Asynchronous Clear, Gate Enable,  and Inverted Gate; FPGAVendor: Xilinx; Published: 15-Sep-2003; Publisher: Altium Limited; HelpURL: http://toolbox.xilinx.com/docsan/xilinx7/books/docs/lib/lib.pdf
pins: CLR (in), D (in), G (in), GE (in), Q (out)

## LDCP
designator U?
Transparent Data Latch with Asynchronous Clear and Preset; FPGAVendor: Xilinx; Published: 15-Sep-2003; Publisher: Altium Limited; HelpURL: http://toolbox.xilinx.com/docsan/xilinx7/books/docs/lib/lib.pdf
pins: CLR (in), D (in), G (in), PRE (in), Q (out)

## LDCP_1
designator U?
Transparent Data Latch with Asynchronous Clear and Preset and Inverted Gate; FPGAVendor: Xilinx; Published: 15-Sep-2003; Publisher: Altium Limited; HelpURL: http://toolbox.xilinx.com/docsan/xilinx7/books/docs/lib/lib.pdf
pins: CLR (in), D (in), G (in), PRE (in), Q (out)

## LDCPE
designator U?
Transparent Data Latch with Asynchronous Clear and Preset and Gate Enable; FPGAVendor: Xilinx; Published: 15-Sep-2003; Publisher: Altium Limited; HelpURL: http://toolbox.xilinx.com/docsan/xilinx7/books/docs/lib/lib.pdf
pins: CLR (in), D (in), G (in), GE (in), PRE (in), Q (out)

## LDCPE_1
designator U?
Transparent Data Latch with Asynchronous Clear and Preset, Gate Enable, and Inverted Gate; FPGAVendor: Xilinx; Published: 15-Sep-2003; Publisher: Altium Limited; HelpURL: http://toolbox.xilinx.com/docsan/xilinx7/books/docs/lib/lib.pdf
pins: CLR (in), D (in), G (in), GE (in), PRE (in), Q (out)

## LDE
designator U?
Transparent Data Latch with Gate Enable; FPGAVendor: Xilinx; Published: 15-Sep-2003; Publisher: Altium Limited; HelpURL: http://toolbox.xilinx.com/docsan/xilinx7/books/docs/lib/lib.pdf
pins: D (in), G (in), GE (in), Q (out)

## LDE_1
designator U?
Transparent Data Latch with Gate Enable and Inverted Gate; FPGAVendor: Xilinx; Published: 15-Sep-2003; Publisher: Altium Limited; HelpURL: http://toolbox.xilinx.com/docsan/xilinx7/books/docs/lib/lib.pdf
pins: D (in), G (in), GE (in), Q (out)

## LDP
designator U?
Transparent Data Latch with Asynchronous Preset; FPGAVendor: Xilinx; Published: 15-Sep-2003; Publisher: Altium Limited; HelpURL: http://toolbox.xilinx.com/docsan/xilinx7/books/docs/lib/lib.pdf
pins: D (in), G (in), PRE (in), Q (out)

## LDP_1
designator U?
Transparent Data Latch with Asynchronous Preset and Inverted Gate; FPGAVendor: Xilinx; Published: 15-Sep-2003; Publisher: Altium Limited; HelpURL: http://toolbox.xilinx.com/docsan/xilinx7/books/docs/lib/lib.pdf
pins: D (in), G (in), PRE (in), Q (out)

## LDPE
designator U?
Transparent Data Latch with Asynchronous Preset and Gate Enable; FPGAVendor: Xilinx; Published: 15-Sep-2003; Publisher: Altium Limited; HelpURL: http://toolbox.xilinx.com/docsan/xilinx7/books/docs/lib/lib.pdf
pins: D (in), G (in), GE (in), PRE (in), Q (out)

## LDPE_1
designator U?
Transparent Data Latch with Asynchronous Preset, Gate Enable, and Inverted Gate; FPGAVendor: Xilinx; Published: 15-Sep-2003; Publisher: Altium Limited; HelpURL: http://toolbox.xilinx.com/docsan/xilinx7/books/docs/lib/lib.pdf
pins: D (in), G (in), GE (in), PRE (in), Q (out)

## LUT1
designator U?
1-Bit Look-Up-Table with General Output; FPGAVendor: Xilinx; Published: 15-Sep-2003; Publisher: Altium Limited; HelpURL: http://toolbox.xilinx.com/docsan/xilinx7/books/docs/lib/lib.pdf
pins: I0 (in), O (out)

## LUT1_D
designator U?
1-Bit Look-Up-Table with Dual Output; FPGAVendor: Xilinx; Published: 15-Sep-2003; Publisher: Altium Limited; HelpURL: http://toolbox.xilinx.com/docsan/xilinx7/books/docs/lib/lib.pdf
pins: I0 (in), LO (out), O (out)

## LUT1_L
designator U?
1-Bit Look-Up-Table with Local Output; FPGAVendor: Xilinx; Published: 15-Sep-2003; Publisher: Altium Limited; HelpURL: http://toolbox.xilinx.com/docsan/xilinx7/books/docs/lib/lib.pdf
pins: I0 (in), LO (out)

## LUT2
designator U?
2-Bit Look-Up-Table with General Output; FPGAVendor: Xilinx; Published: 15-Sep-2003; Publisher: Altium Limited; HelpURL: http://toolbox.xilinx.com/docsan/xilinx7/books/docs/lib/lib.pdf
pins: I0 (in), I1 (in), O (out)

## LUT2_D
designator U?
2-Bit Look-Up-Table with Dual Output; FPGAVendor: Xilinx; Published: 15-Sep-2003; Publisher: Altium Limited; HelpURL: http://toolbox.xilinx.com/docsan/xilinx7/books/docs/lib/lib.pdf
pins: I0 (in), I1 (in), LO (out), O (out)

## LUT2_L
designator U?
2-Bit Look-Up-Table with Local Output; FPGAVendor: Xilinx; Published: 15-Sep-2003; Publisher: Altium Limited; HelpURL: http://toolbox.xilinx.com/docsan/xilinx7/books/docs/lib/lib.pdf
pins: I0 (in), I1 (in), LO (out)

## LUT3
designator U?
3-Bit Look-Up-Table with General Output; FPGAVendor: Xilinx; Published: 15-Sep-2003; Publisher: Altium Limited; HelpURL: http://toolbox.xilinx.com/docsan/xilinx7/books/docs/lib/lib.pdf
pins: I0 (in), I1 (in), I2 (in), O (out)

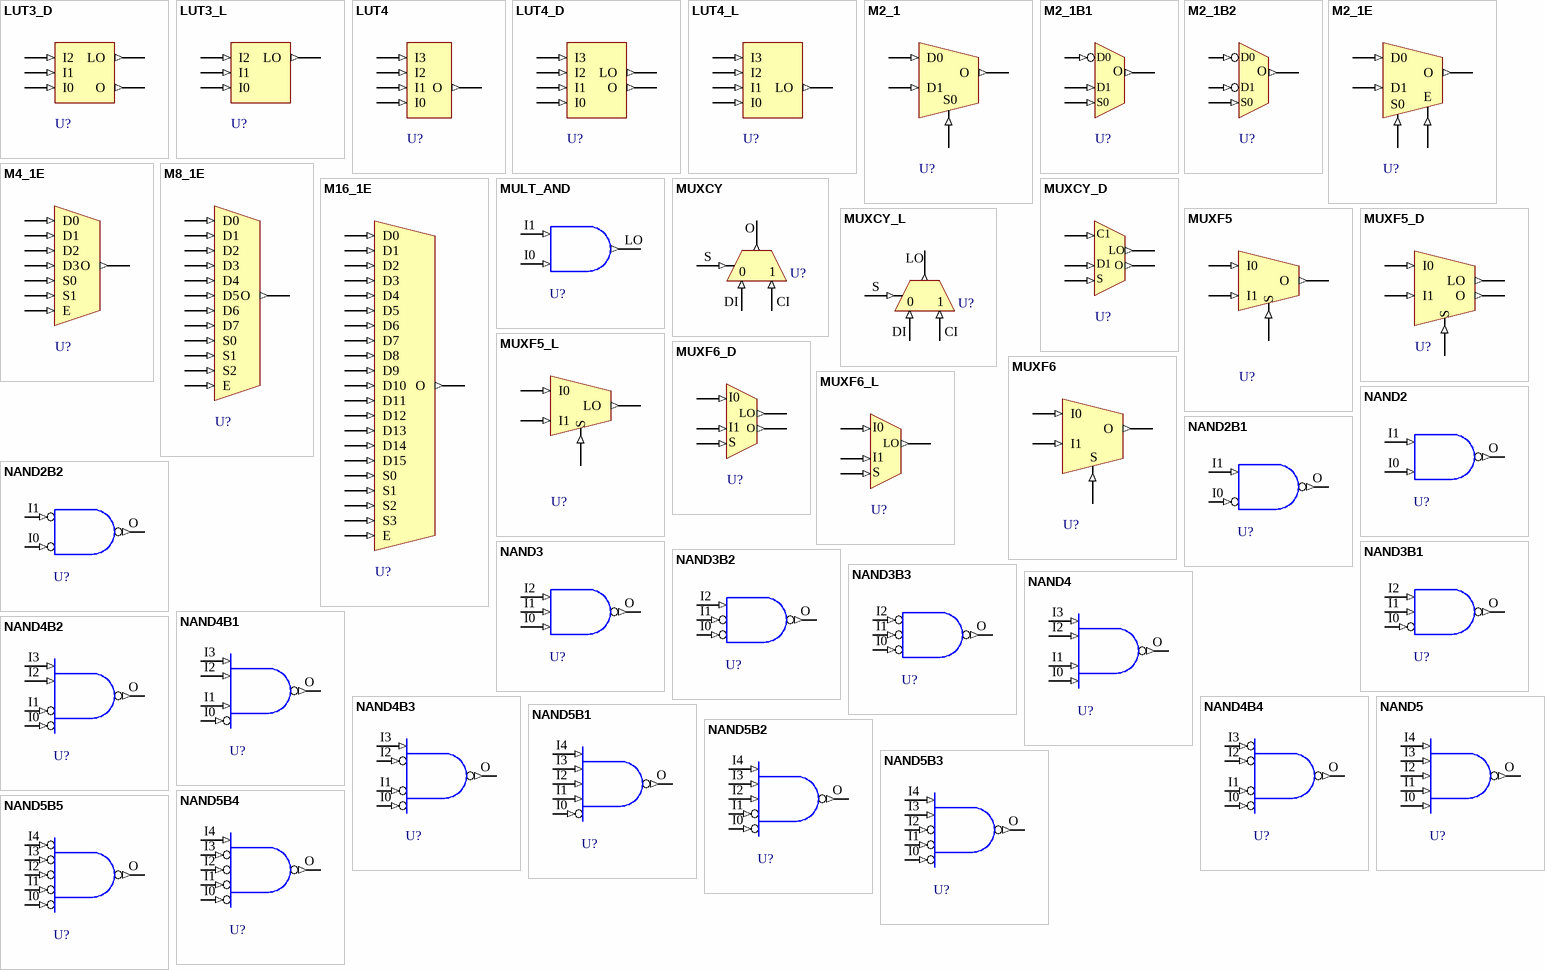
[diagram p8: symbols LUT3_D to NAND5B5]

## LUT3_D
designator U?
3-Bit Look-Up-Table with Dual Output; FPGAVendor: Xilinx; Published: 15-Sep-2003; Publisher: Altium Limited; HelpURL: http://toolbox.xilinx.com/docsan/xilinx7/books/docs/lib/lib.pdf
pins: I0 (in), I1 (in), I2 (in), LO (out), O (out)

## LUT3_L
designator U?
3-Bit Look-Up-Table with Local Output; FPGAVendor: Xilinx; Published: 15-Sep-2003; Publisher: Altium Limited; HelpURL: http://toolbox.xilinx.com/docsan/xilinx7/books/docs/lib/lib.pdf
pins: I0 (in), I1 (in), I2 (in), LO (out)

## LUT4
designator U?
4-Bit Look-Up-Table with General Output; FPGAVendor: Xilinx; Published: 15-Sep-2003; Publisher: Altium Limited; HelpURL: http://toolbox.xilinx.com/docsan/xilinx7/books/docs/lib/lib.pdf
pins: I0 (in), I1 (in), I2 (in), I3 (in), O (out)

## LUT4_D
designator U?
4-Bit Look-Up-Table with Dual Output; FPGAVendor: Xilinx; Published: 15-Sep-2003; Publisher: Altium Limited; HelpURL: http://toolbox.xilinx.com/docsan/xilinx7/books/docs/lib/lib.pdf
pins: I0 (in), I1 (in), I2 (in), I3 (in), LO (out), O (out)

## LUT4_L
designator U?
4-Bit Look-Up-Table with Local Output; FPGAVendor: Xilinx; Published: 15-Sep-2003; Publisher: Altium Limited; HelpURL: http://toolbox.xilinx.com/docsan/xilinx7/books/docs/lib/lib.pdf
pins: I0 (in), I1 (in), I2 (in), I3 (in), LO (out)

## M2_1
designator U?
2-to-1 Multiplexer; FPGAVendor: Xilinx; Published: 15-Sep-2003; Publisher: Altium Limited; HelpURL: http://toolbox.xilinx.com/docsan/xilinx7/books/docs/lib/lib.pdf
pins: D0 (in), D1 (in), O (out), S0 (in)

## M2_1B1
designator U?
2-to-1 Multiplexer with D0 Inverted; FPGAVendor: Xilinx; Published: 15-Sep-2003; Publisher: Altium Limited; HelpURL: http://toolbox.xilinx.com/docsan/xilinx7/books/docs/lib/lib.pdf
pins: D0 (in), D1 (in), O (out), S0 (in)

## M2_1B2
designator U?
2-to-1 Multiplexer with D0 and D1 Inverted; FPGAVendor: Xilinx; Published: 15-Sep-2003; Publisher: Altium Limited; HelpURL: http://toolbox.xilinx.com/docsan/xilinx7/books/docs/lib/lib.pdf
pins: D0 (in), D1 (in), O (out), S0 (in)

## M2_1E
designator U?
2-to-1 Multiplexer with Enable; FPGAVendor: Xilinx; Published: 15-Sep-2003; Publisher: Altium Limited; HelpURL: http://toolbox.xilinx.com/docsan/xilinx7/books/docs/lib/lib.pdf
pins: D0 (in), D1 (in), E (in), O (out), S0 (in)

## M4_1E
designator U?
4-to-1 Multiplexer with Enable; FPGAVendor: Xilinx; Published: 15-Sep-2003; Publisher: Altium Limited; HelpURL: http://toolbox.xilinx.com/docsan/xilinx7/books/docs/lib/lib.pdf
pins: D0 (in), D1 (in), D2 (in), D3 (in), E (in), O (out), S0 (in), S1 (in)

## M8_1E
designator U?
8-to-1 Multiplexer with Enable; FPGAVendor: Xilinx; Published: 15-Sep-2003; Publisher: Altium Limited; HelpURL: http://toolbox.xilinx.com/docsan/xilinx7/books/docs/lib/lib.pdf
pins: D0 (in), D1 (in), D2 (in), D3 (in), D4 (in), D5 (in), D6 (in), D7 (in), E (in), O (out), S0 (in), S1 (in), S2 (in)

## M16_1E
designator U?
16-to-1 Multiplexer with Enable; FPGAVendor: Xilinx; Published: 15-Sep-2003; Publisher: Altium Limited; HelpURL: http://toolbox.xilinx.com/docsan/xilinx7/books/docs/lib/lib.pdf
pins: D0 (in), D1 (in), D2 (in), D3 (in), D4 (in), D5 (in), D6 (in), D7 (in), D8 (in), D9 (in), D10 (in), D11 (in), D12 (in), D13 (in), D14 (in), D15 (in), E (in), O (out), S0 (in), S1 (in), S2 (in), S3 (in)

## MULT_AND
designator U?
Fast Multiplier AND; FPGAVendor: Xilinx; Published: 15-Sep-2003; Publisher: Altium Limited; HelpURL: http://toolbox.xilinx.com/docsan/xilinx7/books/docs/lib/lib.pdf
pins: I0 (in), I1 (in), LO (out)

## MUXCY
designator U?
2-to-1 Multiplexer for Carry Logic with General Output; FPGAVendor: Xilinx; Published: 15-Sep-2003; Publisher: Altium Limited; HelpURL: http://toolbox.xilinx.com/docsan/xilinx7/books/docs/lib/lib.pdf
pins: CI (in), DI (in), O (out), S (in)
text: 0; 1

## MUXCY_D
designator U?
2-to-1 Multiplexer for Carry Logic with Dual Output; FPGAVendor: Xilinx; Published: 15-Sep-2003; Publisher: Altium Limited; HelpURL: http://toolbox.xilinx.com/docsan/xilinx7/books/docs/lib/lib.pdf
pins: CI (in), DI (in), LO (out), O (out), S (in)
text: C1; D1

## MUXCY_L
designator U?
2-to-1 Multiplexer for Carry Logic with Local Output; FPGAVendor: Xilinx; Published: 15-Sep-2003; Publisher: Altium Limited; HelpURL: http://toolbox.xilinx.com/docsan/xilinx7/books/docs/lib/lib.pdf
pins: CI (in), DI (in), LO (out), S (in)
text: 0; 1

## MUXF5
designator U?
2-to-1 Lookup Table Multiplexer with General Output; FPGAVendor: Xilinx; Published: 15-Sep-2003; Publisher: Altium Limited; HelpURL: http://toolbox.xilinx.com/docsan/xilinx7/books/docs/lib/lib.pdf
pins: I0 (in), I1 (in), O (out), S (in)

## MUXF5_D
designator U?
2-to-1 Lookup Table Multiplexer with Dual Output; FPGAVendor: Xilinx; Published: 15-Sep-2003; Publisher: Altium Limited; HelpURL: http://toolbox.xilinx.com/docsan/xilinx7/books/docs/lib/lib.pdf
pins: I0 (in), I1 (in), LO (out), O (out), S (in)

## MUXF5_L
designator U?
2-to-1 Lookup Table Multiplexer with Local Output; FPGAVendor: Xilinx; Published: 15-Sep-2003; Publisher: Altium Limited; HelpURL: http://toolbox.xilinx.com/docsan/xilinx7/books/docs/lib/lib.pdf
pins: I0 (in), I1 (in), LO (out), S (in)

## MUXF6
designator U?
2-to-1 Lookup Table Multiplexer with General Output; FPGAVendor: Xilinx; Published: 15-Sep-2003; Publisher: Altium Limited; HelpURL: http://toolbox.xilinx.com/docsan/xilinx7/books/docs/lib/lib.pdf
pins: I0 (in), I1 (in), O (out), S (in)

## MUXF6_D
designator U?
2-to-1 Lookup Table Multiplexer with Dual Output; FPGAVendor: Xilinx; Published: 15-Sep-2003; Publisher: Altium Limited; HelpURL: http://toolbox.xilinx.com/docsan/xilinx7/books/docs/lib/lib.pdf
pins: I0 (in), I1 (in), LO (out), O (out), S (in)

## MUXF6_L
designator U?
2-to-1 Lookup Table Multiplexer with Local Output; FPGAVendor: Xilinx; Published: 15-Sep-2003; Publisher: Altium Limited; HelpURL: http://toolbox.xilinx.com/docsan/xilinx7/books/docs/lib/lib.pdf
pins: I0 (in), I1 (in), LO (out), S (in)

## NAND2
designator U?
2-Input NAND Gate; FPGAVendor: Xilinx; Published: 15-Sep-2003; Publisher: Altium Limited; HelpURL: http://toolbox.xilinx.com/docsan/xilinx7/books/docs/lib/lib.pdf
pins: I0 (in), I1 (in), O (out)

## NAND2B1
designator U?
2-Input NAND Gate with One Inverted Input; FPGAVendor: Xilinx; Published: 15-Sep-2003; Publisher: Altium Limited; HelpURL: http://toolbox.xilinx.com/docsan/xilinx7/books/docs/lib/lib.pdf
pins: I0 (in), I1 (in), O (out)

## NAND2B2
designator U?
2-Input NAND Gate with Two Inverted Inputs; FPGAVendor: Xilinx; Published: 15-Sep-2003; Publisher: Altium Limited; HelpURL: http://toolbox.xilinx.com/docsan/xilinx7/books/docs/lib/lib.pdf
pins: I0 (in), I1 (in), O (out)

## NAND3
designator U?
3-Input NAND Gate; FPGAVendor: Xilinx; Published: 15-Sep-2003; Publisher: Altium Limited; HelpURL: http://toolbox.xilinx.com/docsan/xilinx7/books/docs/lib/lib.pdf
pins: I0 (in), I1 (in), I2 (in), O (out)

## NAND3B1
designator U?
3-Input NAND Gate with One Inverted Input; FPGAVendor: Xilinx; Published: 15-Sep-2003; Publisher: Altium Limited; HelpURL: http://toolbox.xilinx.com/docsan/xilinx7/books/docs/lib/lib.pdf
pins: I0 (in), I1 (in), I2 (in), O (out)

## NAND3B2
designator U?
3-Input NAND Gate with Two Inverted Inputs; FPGAVendor: Xilinx; Published: 15-Sep-2003; Publisher: Altium Limited; HelpURL: http://toolbox.xilinx.com/docsan/xilinx7/books/docs/lib/lib.pdf
pins: I0 (in), I1 (in), I2 (in), O (out)

## NAND3B3
designator U?
3-Input NAND Gate with Three Inverted Inputs; FPGAVendor: Xilinx; Published: 15-Sep-2003; Publisher: Altium Limited; HelpURL: http://toolbox.xilinx.com/docsan/xilinx7/books/docs/lib/lib.pdf
pins: I0 (in), I1 (in), I2 (in), O (out)

## NAND4
designator U?
4-Input NAND Gate; FPGAVendor: Xilinx; Published: 15-Sep-2003; Publisher: Altium Limited; HelpURL: http://toolbox.xilinx.com/docsan/xilinx7/books/docs/lib/lib.pdf
pins: I0 (in), I1 (in), I2 (in), I3 (in), O (out)

## NAND4B1
designator U?
4-Input NAND Gate with One Inverted Input; FPGAVendor: Xilinx; Published: 15-Sep-2003; Publisher: Altium Limited; HelpURL: http://toolbox.xilinx.com/docsan/xilinx7/books/docs/lib/lib.pdf
pins: I0 (in), I1 (in), I2 (in), I3 (in), O (out)

## NAND4B2
designator U?
4-Input NAND Gate with Two Inverted Inputs; FPGAVendor: Xilinx; Published: 15-Sep-2003; Publisher: Altium Limited; HelpURL: http://toolbox.xilinx.com/docsan/xilinx7/books/docs/lib/lib.pdf
pins: I0 (in), I1 (in), I2 (in), I3 (in), O (out)

## NAND4B3
designator U?
4-Input NAND Gate with Three Inverted Inputs; FPGAVendor: Xilinx; Published: 15-Sep-2003; Publisher: Altium Limited; HelpURL: http://toolbox.xilinx.com/docsan/xilinx7/books/docs/lib/lib.pdf
pins: I0 (in), I1 (in), I2 (in), I3 (in), O (out)

## NAND4B4
designator U?
4-Input NAND Gate with Four Inverted Inputs; FPGAVendor: Xilinx; Published: 15-Sep-2003; Publisher: Altium Limited; HelpURL: http://toolbox.xilinx.com/docsan/xilinx7/books/docs/lib/lib.pdf
pins: I0 (in), I1 (in), I2 (in), I3 (in), O (out)

## NAND5
designator U?
5-Input NAND Gate; FPGAVendor: Xilinx; Published: 15-Sep-2003; Publisher: Altium Limited; HelpURL: http://toolbox.xilinx.com/docsan/xilinx7/books/docs/lib/lib.pdf
pins: I0 (in), I1 (in), I2 (in), I3 (in), I4 (in), O (out)

## NAND5B1
designator U?
5-Input NAND Gate with One Inverted Input; FPGAVendor: Xilinx; Published: 15-Sep-2003; Publisher: Altium Limited; HelpURL: http://toolbox.xilinx.com/docsan/xilinx7/books/docs/lib/lib.pdf
pins: I0 (in), I1 (in), I2 (in), I3 (in), I4 (in), O (out)

## NAND5B2
designator U?
5-Input NAND Gate with Two Inverted Inputs; FPGAVendor: Xilinx; Published: 15-Sep-2003; Publisher: Altium Limited; HelpURL: http://toolbox.xilinx.com/docsan/xilinx7/books/docs/lib/lib.pdf
pins: I0 (in), I1 (in), I2 (in), I3 (in), I4 (in), O (out)

## NAND5B3
designator U?
5-Input NAND Gate with Three Inverted Inputs; FPGAVendor: Xilinx; Published: 15-Sep-2003; Publisher: Altium Limited; HelpURL: http://toolbox.xilinx.com/docsan/xilinx7/books/docs/lib/lib.pdf
pins: I0 (in), I1 (in), I2 (in), I3 (in), I4 (in), O (out)

## NAND5B4
designator U?
5-Input NAND Gate with Four Inverted Inputs; FPGAVendor: Xilinx; Published: 15-Sep-2003; Publisher: Altium Limited; HelpURL: http://toolbox.xilinx.com/docsan/xilinx7/books/docs/lib/lib.pdf
pins: I0 (in), I1 (in), I2 (in), I3 (in), I4 (in), O (out)

## NAND5B5
designator U?
5-Input NAND Gate with Five Inverted Inputs; FPGAVendor: Xilinx; Published: 15-Sep-2003; Publisher: Altium Limited; HelpURL: http://toolbox.xilinx.com/docsan/xilinx7/books/docs/lib/lib.pdf
pins: I0 (in), I1 (in), I2 (in), I3 (in), I4 (in), O (out)

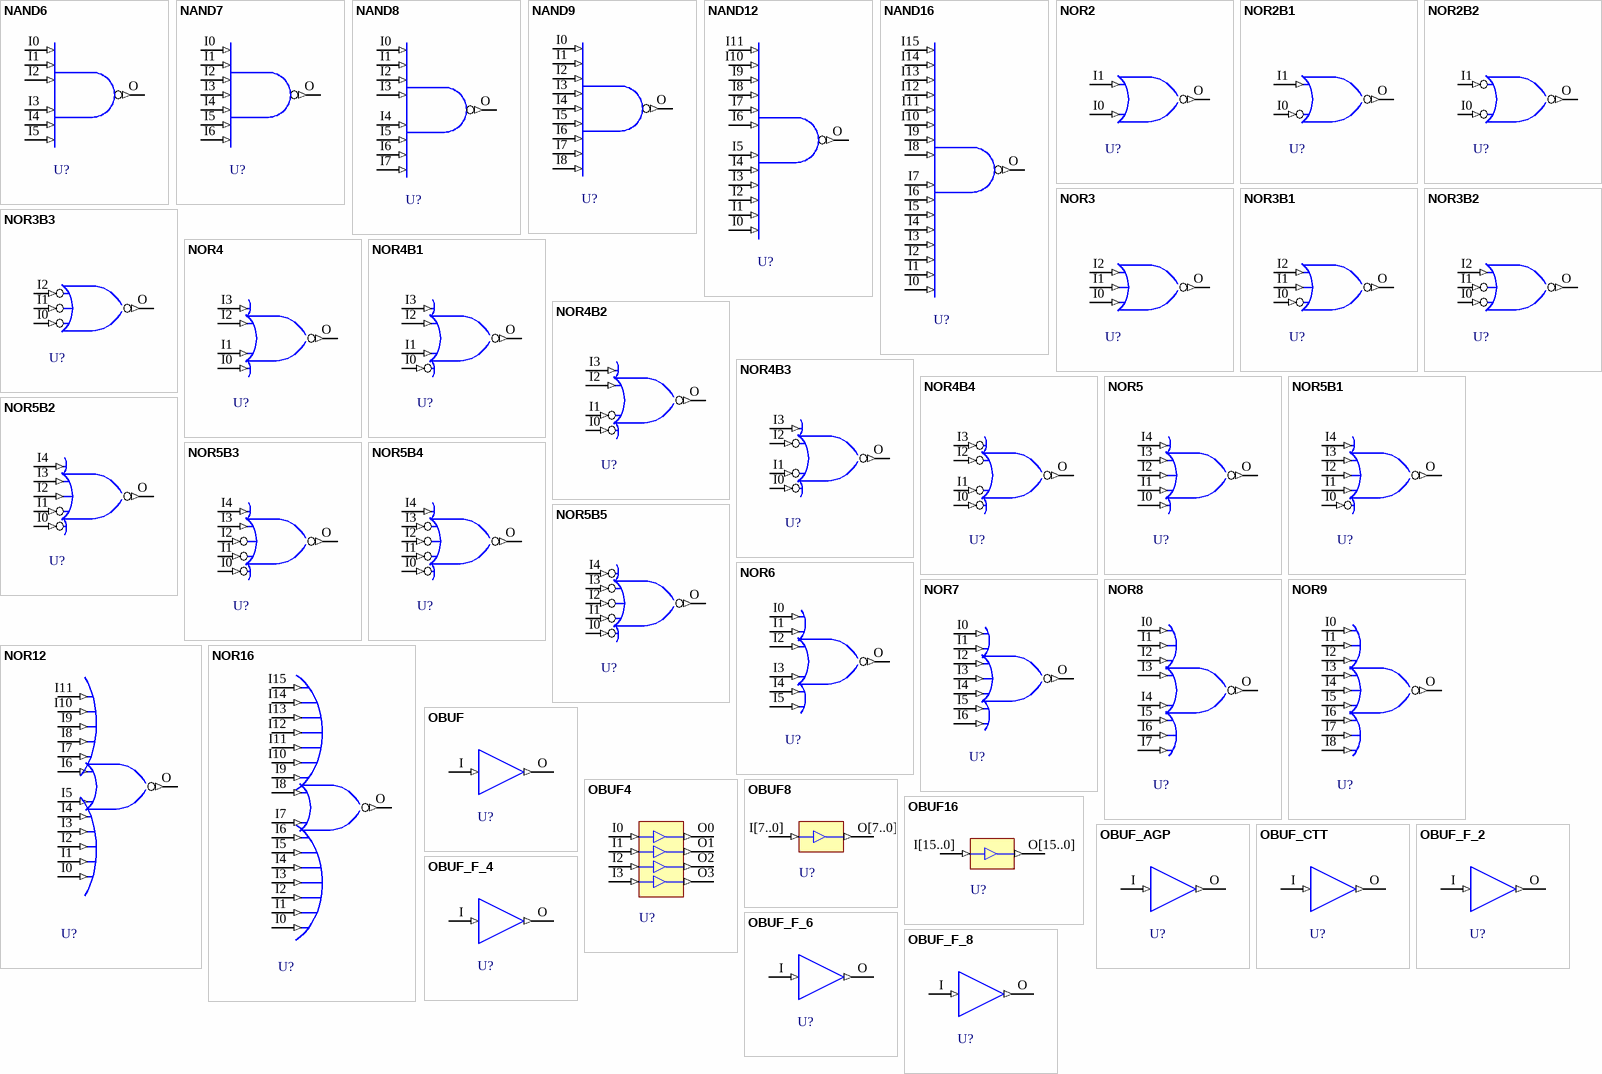
[diagram p9: symbols NAND6 to OBUF_F_8]

## NAND6
designator U?
6-Input NAND Gate; FPGAVendor: Xilinx; Published: 15-Sep-2003; Publisher: Altium Limited; HelpURL: http://toolbox.xilinx.com/docsan/xilinx7/books/docs/lib/lib.pdf
pins: I0 (in), I1 (in), I2 (in), I3 (in), I4 (in), I5 (in), O (out)

## NAND7
designator U?
7-Input NAND Gate; FPGAVendor: Xilinx; Published: 15-Sep-2003; Publisher: Altium Limited; HelpURL: http://toolbox.xilinx.com/docsan/xilinx7/books/docs/lib/lib.pdf
pins: I0 (in), I1 (in), I2 (in), I3 (in), I4 (in), I5 (in), I6 (in), O (out)

## NAND8
designator U?
8-Input NAND Gate; FPGAVendor: Xilinx; Published: 15-Sep-2003; Publisher: Altium Limited; HelpURL: http://toolbox.xilinx.com/docsan/xilinx7/books/docs/lib/lib.pdf
pins: I0 (in), I1 (in), I2 (in), I3 (in), I4 (in), I5 (in), I6 (in), I7 (in), O (out)

## NAND9
designator U?
9-Input NAND Gate; FPGAVendor: Xilinx; Published: 15-Sep-2003; Publisher: Altium Limited; HelpURL: http://toolbox.xilinx.com/docsan/xilinx7/books/docs/lib/lib.pdf
pins: I0 (in), I1 (in), I2 (in), I3 (in), I4 (in), I5 (in), I6 (in), I7 (in), I8 (in), O (out)

## NAND12
designator U?
12-Input NAND Gate; FPGAVendor: Xilinx; Published: 15-Sep-2003; Publisher: Altium Limited; HelpURL: http://toolbox.xilinx.com/docsan/xilinx7/books/docs/lib/lib.pdf
pins: I0 (in), I1 (in), I2 (in), I3 (in), I4 (in), I5 (in), I6 (in), I7 (in), I8 (in), I9 (in), I10 (in), I11 (in), O (out)

## NAND16
designator U?
16-Input NAND Gate; FPGAVendor: Xilinx; Published: 15-Sep-2003; Publisher: Altium Limited; HelpURL: http://toolbox.xilinx.com/docsan/xilinx7/books/docs/lib/lib.pdf
pins: I0 (in), I1 (in), I2 (in), I3 (in), I4 (in), I5 (in), I6 (in), I7 (in), I8 (in), I9 (in), I10 (in), I11 (in), I12 (in), I13 (in), I14 (in), I15 (in), O (out)

## NOR2
designator U?
2-Input NOR Gate; FPGAVendor: Xilinx; Published: 15-Sep-2003; Publisher: Altium Limited; HelpURL: http://toolbox.xilinx.com/docsan/xilinx7/books/docs/lib/lib.pdf
pins: I0 (in), I1 (in), O (out)

## NOR2B1
designator U?
2-Input NOR Gate with One Inverted Input; FPGAVendor: Xilinx; Published: 15-Sep-2003; Publisher: Altium Limited; HelpURL: http://toolbox.xilinx.com/docsan/xilinx7/books/docs/lib/lib.pdf
pins: I0 (in), I1 (in), O (out)

## NOR2B2
designator U?
2-Input NOR Gate with Two Inverted Inputs; FPGAVendor: Xilinx; Published: 15-Sep-2003; Publisher: Altium Limited; HelpURL: http://toolbox.xilinx.com/docsan/xilinx7/books/docs/lib/lib.pdf
pins: I0 (in), I1 (in), O (out)

## NOR3
designator U?
3-Input NOR Gate; FPGAVendor: Xilinx; Published: 15-Sep-2003; Publisher: Altium Limited; HelpURL: http://toolbox.xilinx.com/docsan/xilinx7/books/docs/lib/lib.pdf
pins: I0 (in), I1 (in), I2 (in), O (out)